# Altium schematic symbol library 1.5MM.SchLib: 10 symbols
Pins are listed as number, name and electrical type; pins without a type are passive.

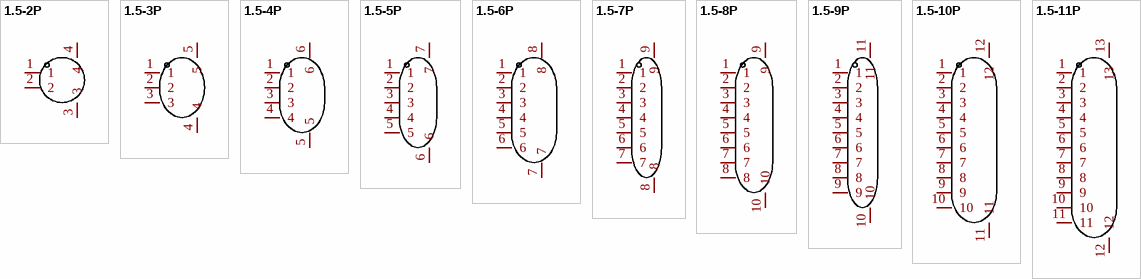
[diagram p0: symbols 1.5-2P to 1.5-11P]

## 1.5-2P
designator CN??, comment 1.25-2P  (value not drawn)
Manufacturer: SHOU HAN(首韩); Add into BOM: yes; Pins Structure: 1x2P; Pitch: 1.25mm; Number of PINs Per Row: 2; Symbol: 1.25-2P; Device: 1.25-2P; Supplier: LCSC; Supplier Part: C393945; Manufacturer Part: 1.25-2P; JLCPCB Part Class: Extended Part; LCSC Part Name: 1x2P 间距:1.25mm; Supplier Footprint: SMD,P=1.25mm; Datasheet: https://atta.szlcsc.com/upload/public/pdf/source/20190521/C393945_901596BDF8E8ACEC9A1CC39C3294128D.pdf; Convert to PCB: yes; Mounting Style: -; Reference Series: -; Number of Pins: 2P; Number of Rows: 1; Row Spacing: -; Contact Material: -
footprint CONN-SMD_2P-P1.50_ZX-ZH1.5-2PWT
pins: 1, 2, 3, 4

## 1.5-3P
designator U??, comment ZX-MX1.25-3PWT  (value not drawn)
Manufacturer: Megastar(兆星); Add into BOM: yes; Pins Structure: 1x3P; Pitch: 1.25mm; Number of PINs Per Row: 3; Current Rating (Max): 1A; Symbol: ZX-MX1.25-3PWT; Device: ZX-MX1.25-3PWT; LCSC Part Name: 1x3P 间距:1.25mm 卧贴; Supplier Part: C7430469; Manufacturer Part: ZX-MX1.25-3PWT; Supplier Footprint: SMD,P=1.25mm,卧贴; JLCPCB Part Class: Extended Part; Datasheet: https://atta.szlcsc.com/upload/public/pdf/source/20230619/F53A6BBA29708C54D1E94831F29660FB.pdf; Supplier: LCSC; Convert to PCB: yes; Mounting Style: 卧贴; Reference Series: -; Number of Pins: 3P; Number of Rows: 1; Row Spacing: -; Contact Material: 黄铜; Contact Plating: 锡; Operating Temperature Range: -25℃~+85℃
footprint CONN-SMD_3P-P1.50_HANSHOU_1.5-3PWT
pins: 1, 2, 3, 4, 5

## 1.5-4P
designator U??, comment ZX-MX1.25-4PWT  (value not drawn)
Manufacturer: Megastar(兆星); Add into BOM: yes; Pins Structure: 1x4P; Pitch: 1.25mm; Number of PINs Per Row: 4; Current Rating (Max): 1A; Symbol: ZX-MX1.25-4PWT; Device: ZX-MX1.25-4PWT; LCSC Part Name: 1x4P 间距:1.25mm 卧贴; Supplier Part: C7430470; Manufacturer Part: ZX-MX1.25-4PWT; Supplier Footprint: SMD,P=1.25mm,卧贴; JLCPCB Part Class: Extended Part; Datasheet: https://atta.szlcsc.com/upload/public/pdf/source/20230619/568E7DE8E71AB8D5E62B450F32774D0B.pdf; Supplier: LCSC; Convert to PCB: yes; Mounting Style: 卧贴; Reference Series: -; Number of Pins: 4P; Number of Rows: 1; Row Spacing: -; Contact Material: 黄铜; Contact Plating: 锡; Operating Temperature Range: -25℃~+85℃
footprint CONN-SMD_ZH1.5-4P_SMD
pins: 1, 2, 3, 4, 5, 6

## 1.5-5P
designator CN??, comment 1.25-5PWB  (value not drawn)
Manufacturer: DEALON(德艺隆); Add into BOM: yes; Pins Structure: 1x5P; Pitch: 1.25mm; Number of PINs Per Row: 5; Symbol: 1.25-5PWB; Device: 1.25-5PWB; Supplier: LCSC; Supplier Part: C2905012; Manufacturer Part: 1.25-5PWB; JLCPCB Part Class: Extended Part; LCSC Part Name: 1x5P 间距:1.25mm 卧贴; Supplier Footprint: SMD,P=1.25mm,卧贴; Datasheet: https://atta.szlcsc.com/upload/public/pdf/source/20231123/1AE0876AE9C7DCFC0D68EAC4CBA881B0.pdf; Convert to PCB: yes; Mounting Style: 卧贴; Reference Series: -; Number of Pins: 5P; Number of Rows: 1; Row Spacing: -; Current Rating (Max): -; Operating Temperature Range: -25℃~+85℃
footprint CONN-SMD_ZH1.5-5P_SMD
pins: 1, 2, 3, 4, 5, 6, 7

## 1.5-6P
designator FPC??, comment 1.25-6PS  (value not drawn)
Manufacturer: DEALON(德艺隆); Add into BOM: yes; Pins Structure: 1x6P; Pitch: 1.25mm; Number of PINs Per Row: 6; Symbol: 1.25-6PS; Device: 1.25-6PS; LCSC Part Name: 1x6P 间距:1.25mm 立贴; Supplier Part: C2904993; Manufacturer Part: 1.25-6PS; Supplier Footprint: SMD,P=1.25mm; JLCPCB Part Class: Extended Part; Datasheet: https://atta.szlcsc.com/upload/public/pdf/source/20240104/319D8B214BA1AD300ADD00F342A039CD.pdf; Supplier: LCSC; Convert to PCB: yes; Mounting Style: 立贴; Reference Series: -; Number of Pins: 6P; Number of Rows: 1; Row Spacing: -; Current Rating (Max): -; Operating Temperature Range: -65℃~+125℃
footprint CONN-SMD_ZH1.5-6P_SMD
pins: 1, 2, 3, 4, 5, 6, 7, 8

## 1.5-7P
designator CN??, comment 1.25-7PS  (value not drawn)
Manufacturer: DEALON(德艺隆); Add into BOM: yes; Pins Structure: 1x7P; Pitch: 1.25mm; Number of PINs Per Row: 7; Symbol: 1.25-7PS; Device: 1.25-7PS; LCSC Part Name: 1.25-7PS; Supplier Part: C5140433; Manufacturer Part: 1.25-7PS; Supplier Footprint: SMD,P=1.25mm; JLCPCB Part Class: Extended Part; Datasheet: https://atta.szlcsc.com/upload/public/pdf/source/20240104/319D8B214BA1AD300ADD00F342A039CD.pdf; Supplier: LCSC; Convert to PCB: yes; Mounting Style: 立贴; Number of Pins: 7P; Number of Rows: 1
footprint CONN-SMD_7P-P1.50_ZX-ZH1.5-7PWT
pins: 1, 2, 3, 4, 5, 6, 7, 8, 9

## 1.5-8P
designator CN??, comment HX 1.25-8P WT  (value not drawn)
Manufacturer: hanxia(韩下); Add into BOM: yes; Pins Structure: 1x8P; Pitch: 1.25mm; Number of PINs Per Row: 8; Current Rating (Max): 1A; Symbol: HX 1.25-8P WT; Device: HX 1.25-8P WT; Supplier: LCSC; Supplier Part: C5142075; Manufacturer Part: HX 1.25-8P WT; JLCPCB Part Class: Extended Part; LCSC Part Name: 1x8P 间距:1.25mm 卧贴; Supplier Footprint: SMD,P=1.25mm,卧贴; Datasheet: https://atta.szlcsc.com/upload/public/pdf/source/20220818/AE8818BB68A5CED2DE523EED18E9F111.pdf; Convert to PCB: yes; Mounting Style: 卧贴; Number of Pins: 8P; Number of Rows: 1; Operating Temperature Range: -25℃~+85℃
footprint CONN-SMD_8P-P1.50_SHOU-HAN_1.5-8P-WT
pins: 1, 2, 3, 4, 5, 6, 7, 8, 9, 10

## 1.5-9P
designator CN??, comment 1.25-9PWB  (value not drawn)
Manufacturer: DEALON(德艺隆); Add into BOM: yes; Pins Structure: 1x9P; Pitch: 1.25mm; Number of PINs Per Row: 9; Symbol: 1.25-9PWB; Device: 1.25-9PWB; LCSC Part Name: 1.25-9PWB; Supplier Part: C5140426; Manufacturer Part: 1.25-9PWB; Supplier Footprint: SMD,P=1.25mm; JLCPCB Part Class: Extended Part; Datasheet: https://atta.szlcsc.com/upload/public/pdf/source/20231123/1AE0876AE9C7DCFC0D68EAC4CBA881B0.pdf; Supplier: LCSC; Convert to PCB: yes; Mounting Style: 卧贴; Number of Pins: 9P; Number of Rows: 1
footprint CONN-SMD_9P-P1.50_1.5-9P-WT
pins: 1, 2, 3, 4, 5, 6, 7, 8, 9, 10, 11

## 1.5-10P
designator U??, comment 1.25-10PWB  (value not drawn)
Manufacturer: DEALON(德艺隆); Add into BOM: yes; Pins Structure: 1x10P; Pitch: 1.25mm; Number of PINs Per Row: 10; Symbol: 1.25-10PWB; Device: 1.25-10PWB; LCSC Part Name: 1.25-10PWB; Supplier Part: C5140427; Manufacturer Part: 1.25-10PWB; Supplier Footprint: SMD,P=1.25mm; JLCPCB Part Class: Extended Part; Datasheet: https://atta.szlcsc.com/upload/public/pdf/source/20231123/1AE0876AE9C7DCFC0D68EAC4CBA881B0.pdf; Supplier: LCSC; Convert to PCB: yes; Mounting Style: 卧贴; Number of Pins: 10P; Number of Rows: 1
footprint CONN-SMD_10P-P1.50_1.5-10P-WT
pins: 1, 2, 3, 4, 5, 6, 7, 8, 9, 10, 11, 12

## 1.5-11P
designator CN??, comment 1.25-11PWB  (value not drawn)
Manufacturer: DEALON(德艺隆); Add into BOM: yes; Pins Structure: 1x11P; Pitch: 1.25mm; Number of PINs Per Row: 11; Symbol: 1.25-11PWB; Device: 1.25-11PWB; LCSC Part Name: 1.25-11PWB; Supplier Part: C5140428; Manufacturer Part: 1.25-11PWB; Supplier Footprint: SMD,P=1.25mm; JLCPCB Part Class: Extended Part; Datasheet: https://atta.szlcsc.com/upload/public/pdf/source/20231123/1AE0876AE9C7DCFC0D68EAC4CBA881B0.pdf; Supplier: LCSC; Convert to PCB: yes; Mounting Style: 卧贴; Number of Pins: 11P; Number of Rows: 1
footprint CONN-SMD_11P-P1.50_SHOU-HAN_1.5-11P-WT
pins: 1, 2, 3, 4, 5, 6, 7, 8, 9, 10, 11, 12, 13